# EAGLE library part TEXAS_INSTRUMENTS_SN74HC125 (library AQ_sensor_GSM)
TI-SN74HC125-D0014A-14
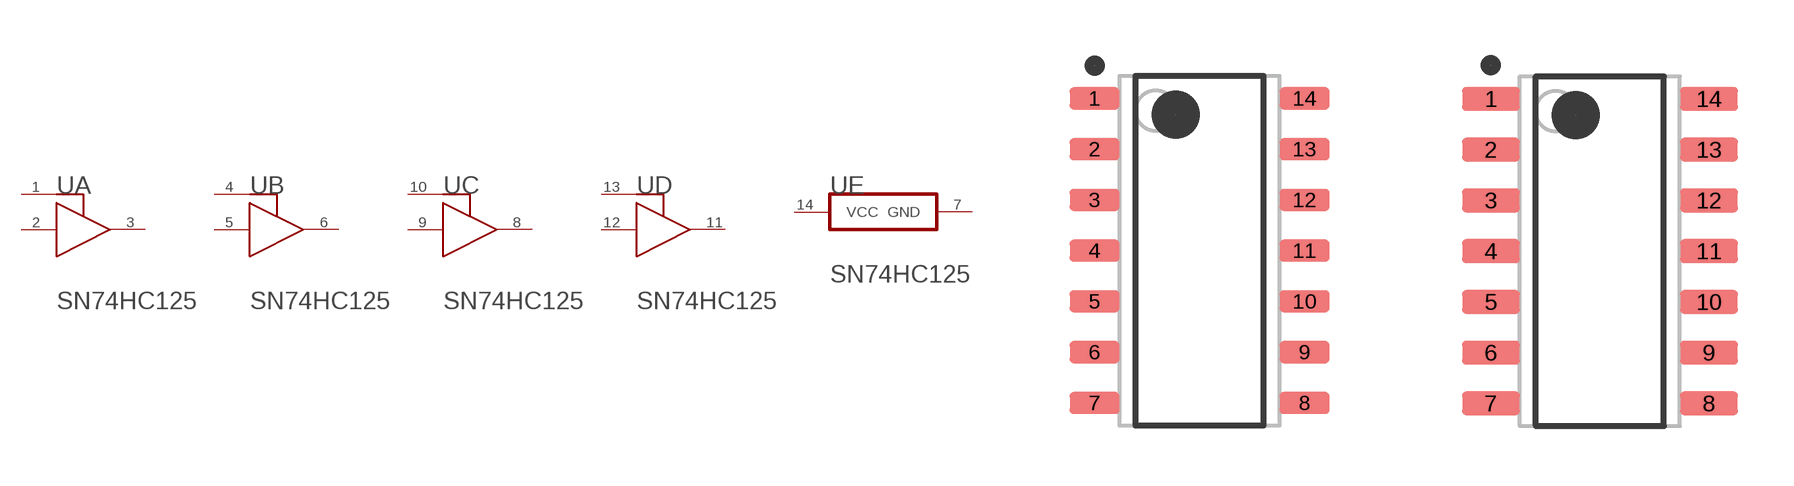
[diagram p6: symbol with the pads of TEXAS_INSTRUMENTS_SN74HC125_0; footprints TEXAS_INSTRUMENTS_SN74HC125_0, TEXAS_INSTRUMENTS_SN74HC125_1]

Designator prefix U; gates A=TEXAS_INSTRUMENTS_SN74HC125_0_0 B=TEXAS_INSTRUMENTS_SN74HC125_0_1 C=TEXAS_INSTRUMENTS_SN74HC125_0_2 D=TEXAS_INSTRUMENTS_SN74HC125_0_3 E=TEXAS_INSTRUMENTS_SN74HC125_0_4

## TEXAS_INSTRUMENTS_SN74HC125TEXAS_INSTRUMENTS_SN74HC125_0_0 (BITS: 4; CIIVA_IDS: 1347642; CODE__JEDEC: MS-012; DATASHEET_VERSION: SCLS104D; FOOTPRINT_VARIANT_NAME_0: Level C; FOOTPRINT_VARIANT_NAME_1: Level B; FOOTPRINT_VARIANT_NAME_2: Level A; F__NOM_VOLTAGEMAXMHZ: 28; ICC__NOM_VOLTAGEMAXMA: 0.16; IMPORTED: yes; IMPORTED_FROM: vault; IMPORT_TS: 1521847871; INPUT_TYPE: CMOS; MF: Texas Instruments; MPN: SN74HC125; OPERATING_TEMPERATURE_RANGEC: -40 to 85; OUTPUT_TYPE: CMOS; PACKAGE: D0014A; PACKAGE_VERSION: http://www.ti.com/lit/ml/mpds177g/mpds177g.pdf; PIN_0_0_0_OUTSIDE_EDGE: dot; PIN_0_1_0_OUTSIDE_EDGE: dot; PIN_0_2_0_OUTSIDE_EDGE: dot; PIN_0_3_2_OUTSIDE_EDGE: dot; PREFIX: U; RATING: Catalog; RELEASE_DATE: 1459237643; TPD__NOM_VOLTAGEMAXNS: 26; VAULT_GUID: 3C6FD517-640E-4127-B90A-BA192E753297; VAULT_REVISION: 33E4D10A-39F8-41E5-8A10-D32CFAC933D3; VCC_MAX_V: 6; VCC_MIN_V: 2; VOLTAGE_NOM_V: 6)  [TEXAS_INSTRUMENTS_SN74HC125_0]
1  A:1_!OE!  in
2  A:1A  in
3  A:1Y  hiz
4  B:4_!OE!  in
5  B:2A  in
6  B:2Y  hiz
7  E:GND  pwr
8  C:3Y  hiz
9  C:3A  in
10  C:2_!OE!  in
11  D:4Y  hiz
12  D:4A  in
13  D:3_!OE!  in
14  E:VCC  pwr

## TEXAS_INSTRUMENTS_SN74HC125TEXAS_INSTRUMENTS_SN74HC125_0_1 (BITS: 4; CIIVA_IDS: 1347642; CODE__JEDEC: MS-012; DATASHEET_VERSION: SCLS104D; FOOTPRINT_VARIANT_NAME_0: Level C; FOOTPRINT_VARIANT_NAME_1: Level B; FOOTPRINT_VARIANT_NAME_2: Level A; F__NOM_VOLTAGEMAXMHZ: 28; ICC__NOM_VOLTAGEMAXMA: 0.16; IMPORTED: yes; IMPORTED_FROM: vault; IMPORT_TS: 1521847871; INPUT_TYPE: CMOS; MF: Texas Instruments; MPN: SN74HC125; OPERATING_TEMPERATURE_RANGEC: -40 to 85; OUTPUT_TYPE: CMOS; PACKAGE: D0014A; PACKAGE_VERSION: http://www.ti.com/lit/ml/mpds177g/mpds177g.pdf; PIN_0_0_0_OUTSIDE_EDGE: dot; PIN_0_1_0_OUTSIDE_EDGE: dot; PIN_0_2_0_OUTSIDE_EDGE: dot; PIN_0_3_2_OUTSIDE_EDGE: dot; PREFIX: U; RATING: Catalog; RELEASE_DATE: 1459237643; TPD__NOM_VOLTAGEMAXNS: 26; VAULT_GUID: 3C6FD517-640E-4127-B90A-BA192E753297; VAULT_REVISION: 33E4D10A-39F8-41E5-8A10-D32CFAC933D3; VCC_MAX_V: 6; VCC_MIN_V: 2; VOLTAGE_NOM_V: 6)  [TEXAS_INSTRUMENTS_SN74HC125_1]
Pads as for TEXAS_INSTRUMENTS_SN74HC125_0

## TEXAS_INSTRUMENTS_SN74HC125TEXAS_INSTRUMENTS_SN74HC125_0_2 (BITS: 4; CIIVA_IDS: 1347642; CODE__JEDEC: MS-012; DATASHEET_VERSION: SCLS104D; FOOTPRINT_VARIANT_NAME_0: Level C; FOOTPRINT_VARIANT_NAME_1: Level B; FOOTPRINT_VARIANT_NAME_2: Level A; F__NOM_VOLTAGEMAXMHZ: 28; ICC__NOM_VOLTAGEMAXMA: 0.16; IMPORTED: yes; IMPORTED_FROM: vault; IMPORT_TS: 1521847871; INPUT_TYPE: CMOS; MF: Texas Instruments; MPN: SN74HC125; OPERATING_TEMPERATURE_RANGEC: -40 to 85; OUTPUT_TYPE: CMOS; PACKAGE: D0014A; PACKAGE_VERSION: http://www.ti.com/lit/ml/mpds177g/mpds177g.pdf; PIN_0_0_0_OUTSIDE_EDGE: dot; PIN_0_1_0_OUTSIDE_EDGE: dot; PIN_0_2_0_OUTSIDE_EDGE: dot; PIN_0_3_2_OUTSIDE_EDGE: dot; PREFIX: U; RATING: Catalog; RELEASE_DATE: 1459237643; TPD__NOM_VOLTAGEMAXNS: 26; VAULT_GUID: 3C6FD517-640E-4127-B90A-BA192E753297; VAULT_REVISION: 33E4D10A-39F8-41E5-8A10-D32CFAC933D3; VCC_MAX_V: 6; VCC_MIN_V: 2; VOLTAGE_NOM_V: 6)  [TEXAS_INSTRUMENTS_SN74HC125_2]
Pads as for TEXAS_INSTRUMENTS_SN74HC125_0

## Footprint TEXAS_INSTRUMENTS_SN74HC125_0 (pad centres in mm)
TI-SN74HC125-D0014A-14
smd 1.25 x 0.55: 1 -2.625,3.81; 2 -2.625,2.54; 3 -2.625,1.27; 4 -2.625,0; 5 -2.625,-1.27; 6 -2.625,-2.54; 7 -2.625,-3.81; 8 2.625,-3.81; 9 2.625,-2.54; 10 2.625,-1.27; 11 2.625,0; 12 2.625,1.27; 13 2.625,2.54; 14 2.625,3.81

## Footprint TEXAS_INSTRUMENTS_SN74HC125_1 (pad centres in mm)
TI-SN74HC125-D0014A-14
smd 1.45 x 0.6: 1 -2.725,3.81; 2 -2.725,2.54; 3 -2.725,1.27; 4 -2.725,0; 5 -2.725,-1.27; 6 -2.725,-2.54; 7 -2.725,-3.81; 8 2.725,-3.81; 9 2.725,-2.54; 10 2.725,-1.27; 11 2.725,0; 12 2.725,1.27; 13 2.725,2.54; 14 2.725,3.81

## Footprint TEXAS_INSTRUMENTS_SN74HC125_2 (pad centres in mm)
TI-SN74HC125-D0014A-14
smd 1.65 x 0.65: 1 -2.825,3.81; 2 -2.825,2.54; 3 -2.825,1.27; 4 -2.825,0; 5 -2.825,-1.27; 6 -2.825,-2.54; 7 -2.825,-3.81; 8 2.825,-3.81; 9 2.825,-2.54; 10 2.825,-1.27; 11 2.825,0; 12 2.825,1.27; 13 2.825,2.54; 14 2.825,3.81